# EAGLE library part MC33926 (library Controllers)
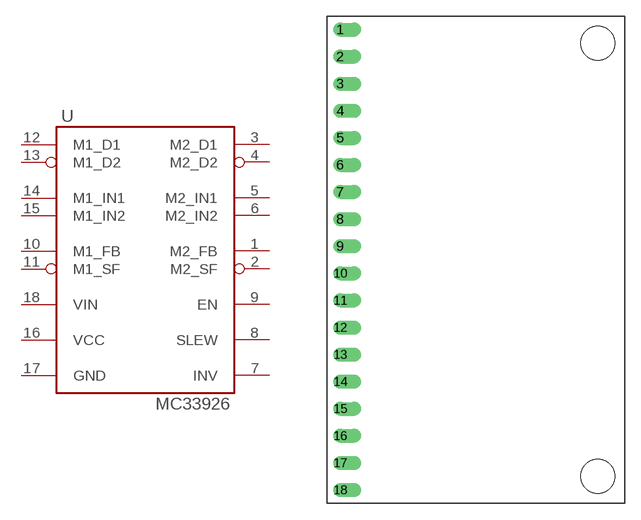
[diagram p0: symbol with the pads of MC33926; footprint MC33926]

Designator prefix -

## MC33926  [MC33926]
1  M2_FB
2  M2_SF
3  M2_D1
4  M2_D2
5  M2_IN1
6  M2_IN2
7  INV
8  SLEW
9  EN
10  M1_FB
11  M1_SF
12  M1_D1  in
13  M1_D2
14  M1_IN1
15  M1_IN2
16  VCC  pwr
17  GND  pwr
18  VIN  pwr

## Footprint MC33926 (pad centres in mm)
drill 0.8 offset: 1 -12.7,21.59; 2 -12.7,19.05; 3 -12.7,16.51; 4 -12.7,13.97; 5 -12.7,11.43; 6 -12.7,8.89; 7 -12.7,6.35; 8 -12.7,3.81; 9 -12.7,1.27; 10 -12.7,-1.27; 11 -12.7,-3.81; 12 -12.7,-6.35; 13 -12.7,-8.89; 14 -12.7,-11.43; 15 -12.7,-13.97; 16 -12.7,-16.51; 17 -12.7,-19.05; 18 -12.7,-21.59
hole 3.2 at 11.43,20.32
hole 3.2 at 11.43,-20.32